# EAGLE library part SIP4XB (library rezistory)
Rezistorová sít
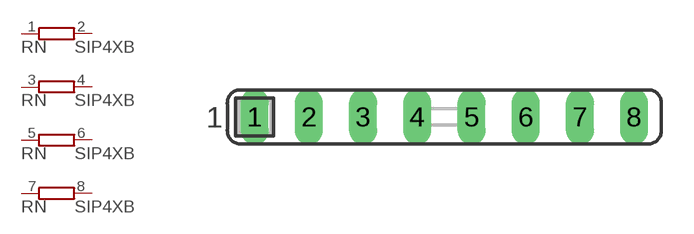
[diagram p1: symbol with the pads of SIL8; footprint SIL8]

Designator prefix RN; gates G$1=RPV G$2=RPV G$3=RPV G$4=RPV

## SIP4XB  [SIL8]
1  G$1:1  pas
2  G$1:2  pas
3  G$2:1  pas
4  G$2:2  pas
5  G$3:1  pas
6  G$3:2  pas
7  G$4:1  pas
8  G$4:2  pas

## Footprint SIL8 (pad centres in mm)
drill 0.813 long: 1 -8.89,0; 2 -6.35,0; 3 -3.81,0; 4 -1.27,0; 5 1.27,0; 6 3.81,0; 7 6.35,0; 8 8.89,0